# Altium integrated library Module_TP4056_MICRO-USB_CHARGER_-_1A.IntLib: 1 symbol
Pins are listed as number, name and electrical type; pins without a type are passive.

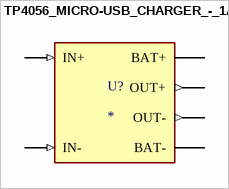
[diagram p0: symbol TP4056_MICRO-USB_CHARGER_-_1A]

## TP4056_MICRO-USB_CHARGER_-_1A
designator U?
The TP4056ES Li-Ion micro USB charger is an improved version of the TP4056, ideal for 18650 batteries, with a micro USB connection for direct PC charging.; MF: Generic; MP: TP4056 Micro-USB Charger - 1A; SnapEDA_Link: https://www.snapeda.com/parts/TP4056%20Micro-USB%20Charger%20-%201A/Generic/view-part/?ref=snap; Package: Package; Value: *; Check_prices: https://www.snapeda.com/parts/TP4056%20Micro-USB%20Charger%20-%201A/Generic/view-part/?ref=eda
footprint MODULE_TP4056_MICRO-USB_CHARGER_-_1A
pins: BAT_N BAT- (power), BAT_P BAT+ (power), IN_N IN- (in), IN_P IN+ (in), OUT_N OUT- (out), OUT_P OUT+ (out)